# EAGLE library part ADA-GPS (library 0_soofa_library)
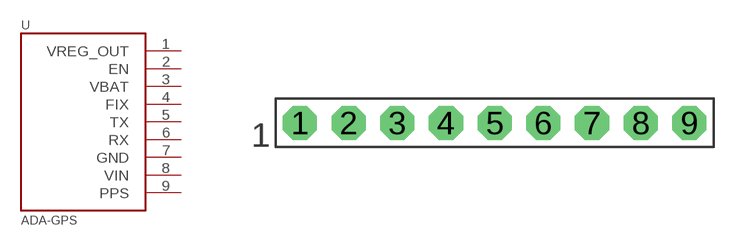
[diagram p7: symbol with the pads of 1X09-BIG; footprint 1X09-BIG]

Designator prefix -

## ADA-GPS  [1X09-BIG]
1  VREG_OUT
2  EN
3  VBAT
4  FIX
5  TX
6  RX
7  GND
8  VIN
9  PPS

## Footprint 1X09-BIG (pad centres in mm)
drill 1.016 pad 1.778 octagon: 1 -10.16,0; 2 -7.62,0; 3 -5.08,0; 4 -2.54,0; 5 0,0; 6 2.54,0; 7 5.08,0; 8 7.62,0; 9 10.16,0